# EAGLE library part PIC17C75XPT (library microchip)
MICROCONTROLLER
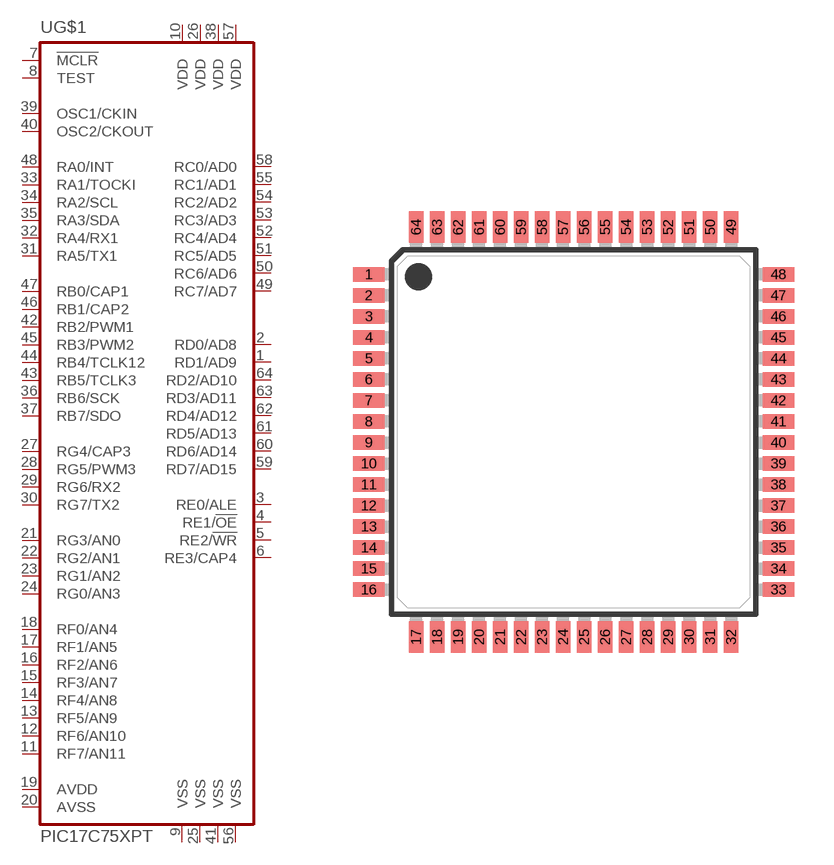
[diagram p56: symbol with the pads of TQFP64; footprint TQFP64]

Designator prefix U; gates G$1=PIC17C75X P1=VDD P2=VDD P3=VDD P4=VDD P5=VSS P6=VSS P7=VSS P8=VSS

## PIC17C75XPT  [TQFP64]
1  G$1:RD1/AD9
2  G$1:RD0/AD8
3  G$1:RE0/ALE
4  G$1:RE1/!OE
5  G$1:RE2/!WR
6  G$1:RE3/CAP4
7  G$1:!MCLR  in
8  G$1:TEST  in
9  P5:VSS  pwr
10  P1:VDD  pwr
11  G$1:RF7/AN11
12  G$1:RF6/AN10
13  G$1:RF5/AN9
14  G$1:RF4/AN8
15  G$1:RF3/AN7
16  G$1:RF2/AN6
17  G$1:RF1/AN5
18  G$1:RF0/AN4
19  G$1:AVDD  pwr
20  G$1:AVSS  pwr
21  G$1:RG3/AN0
22  G$1:RG2/AN1
23  G$1:RG1/AN2
24  G$1:RG0/AN3
25  P6:VSS  pwr
26  P2:VDD  pwr
27  G$1:RG4/CAP3
28  G$1:RG5/PWM3
29  G$1:RG6/RX2
30  G$1:RG7/TX2
31  G$1:RA5/TX1
32  G$1:RA4/RX1
33  G$1:RA1/TOCKI  in
34  G$1:RA2/SCL
35  G$1:RA3/SDA
36  G$1:RB6/SCK
37  G$1:RB7/SDO
38  P3:VDD  pwr
39  G$1:OSC1/CKIN  in
40  G$1:OSC2/CKOUT  out
41  P7:VSS  pwr
42  G$1:RB2/PWM1
43  G$1:RB5/TCLK3
44  G$1:RB4/TCLK12
45  G$1:RB3/PWM2
46  G$1:RB1/CAP2
47  G$1:RB0/CAP1
48  G$1:RA0/INT  in
49  G$1:RC7/AD7
50  G$1:RC6/AD6
51  G$1:RC5/AD5
52  G$1:RC4/AD4
53  G$1:RC3/AD3
54  G$1:RC2/AD2
55  G$1:RC1/AD1
56  P8:VSS  pwr
57  P4:VDD  pwr
58  G$1:RC0/AD0
59  G$1:RD7/AD15
60  G$1:RD6/AD14
61  G$1:RD5/AD13
62  G$1:RD4/AD12
63  G$1:RD3/AD11
64  G$1:RD2/AD10

## Footprint TQFP64 (pad centres in mm)
smd 1.194 x 0.559: 1 -7.8,6; 2 -7.8,5.2; 3 -7.8,4.4; 4 -7.8,3.6; 5 -7.8,2.8; 6 -7.8,2; 7 -7.8,1.2; 8 -7.8,0.4; 9 -7.8,-0.4; 10 -7.8,-1.2; 11 -7.8,-2; 12 -7.8,-2.8; 13 -7.8,-3.6; 14 -7.8,-4.4; 15 -7.8,-5.2; 16 -7.8,-6; 33 7.8,-6; 34 7.8,-5.2; 35 7.8,-4.4; 36 7.8,-3.6; 37 7.8,-2.8; 38 7.8,-2; 39 7.8,-1.2; 40 7.8,-0.4; 41 7.8,0.4; 42 7.8,1.2; 43 7.8,2; 44 7.8,2.8; 45 7.8,3.6; 46 7.8,4.4; 47 7.8,5.2; 48 7.8,6
smd 0.559 x 1.194: 17 -6,-7.8; 18 -5.2,-7.8; 19 -4.4,-7.8; 20 -3.6,-7.8; 21 -2.8,-7.8; 22 -2,-7.8; 23 -1.2,-7.8; 24 -0.4,-7.8; 25 0.4,-7.8; 26 1.2,-7.8; 27 2,-7.8; 28 2.8,-7.8; 29 3.6,-7.8; 30 4.4,-7.8; 31 5.2,-7.8; 32 6,-7.8; 49 6,7.8; 50 5.2,7.8; 51 4.4,7.8; 52 3.6,7.8; 53 2.8,7.8; 54 2,7.8; 55 1.2,7.8; 56 0.4,7.8; 57 -0.4,7.8; 58 -1.2,7.8; 59 -2,7.8; 60 -2.8,7.8; 61 -3.6,7.8; 62 -4.4,7.8; 63 -5.2,7.8; 64 -6,7.8